# Altium schematic symbol library BB-HEADER-P14-P26.SchLib: 1 symbol
Pins are listed as number, name and electrical type; pins without a type are passive.

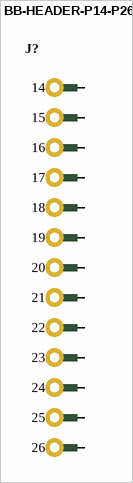
[diagram p0: symbol BB-HEADER-P14-P26]

## BB-HEADER-P14-P26
designator J?  (value not drawn)
BB Header, Vertical, Male, 0.1", 2.54mm, P14-P26
pins: 14, 15, 16, 17, 18, 19, 20, 21, 22, 23, 24, 25, 26